# Altium schematic symbol library 74HC165.SchLib: 1 symbol
Pins are listed as number, name and electrical type; pins without a type are passive.

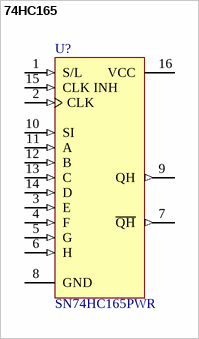
[diagram p0: symbol 74HC165]

## 74HC165
designator U?, comment SN74HC165PWR
8-Bit Parallel In/Serial Output Shift Register; PDF: http://www.ti.com/lit/ds/symlink/sn74hc165.pdf; BUY_LINK: http://www.digikey.com/product-detail/en/SN74HC165PWR/296-8253-1-ND/376670; ID: SN74HC165PWR; PRICE: 0.49000
footprint TSSOP16
pins: 1 S/L (in), 2 CLK (in), 3 E (in), 4 F (in), 5 G (in), 6 H (in), 7 ~{QH} (out), 8 GND (power), 9 QH (out), 10 SI (in), 11 A (in), 12 B (in), 13 C (in), 14 D (in), 15 CLK INH (in), 16 VCC (power)